# Altium footprint library PQFN-5x6_DUAL.PcbLib: 1 footprints
Each footprint in its own frame and in the unit in brackets; x right, y up, seen from the top. Pads: shape width x height; smd on the part's side, far side on the other; paste and mask are expansions set on the pad; w line width, h text height; cw(c..) or ccw(c..) is an arc to the next point about the centre after c.
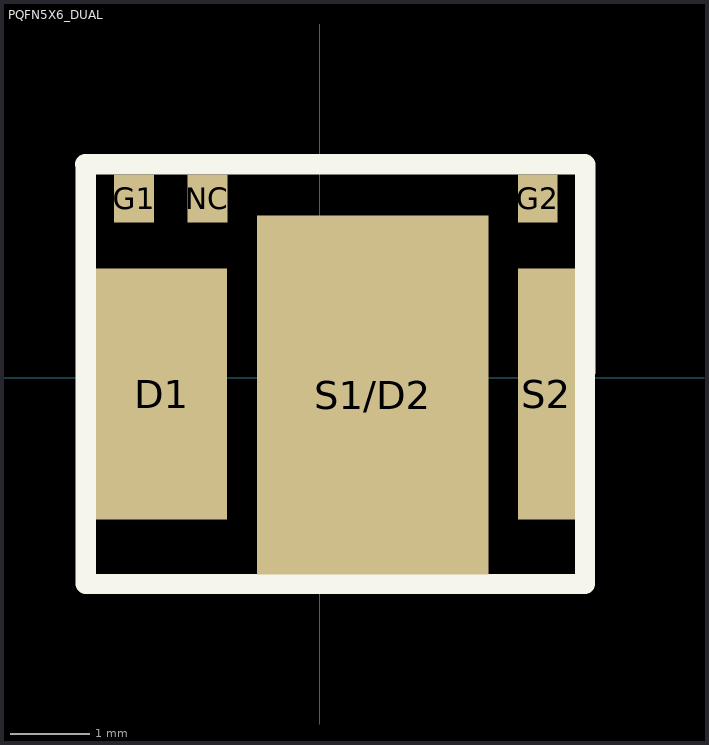
[diagram p0: the footprint, top view; thin cyan lines are the x and y axes]

## PQFN5X6_DUAL [mm]
pads (6):
  rect 1.643x3.15 smd: D1(-1.983,-0.201)
  rect 0.5x0.6 smd: G1(-2.327,2.25) G2(2.732,2.25) NC(-1.408,2.25)
  rect 2.9x4.5 smd: S1/D2(0.663,-0.215)
  rect 0.717x3.15 smd: S2(2.841,-0.201)
Top Overlay:
  lines w0.254: -2.937,2.678 3.319,2.677 ; -2.931,2.68 -2.932,-2.58 3.323,-2.58 3.327,2.672
3D body "User Library-PQFN 5x6.step": height 0.9, standoff 0, extent -2.883,-2.5 3.137,2.5